# EAGLE library part TC1412N (library custom_parts)
Microchip MOSFET driver, 2A, 4-16V
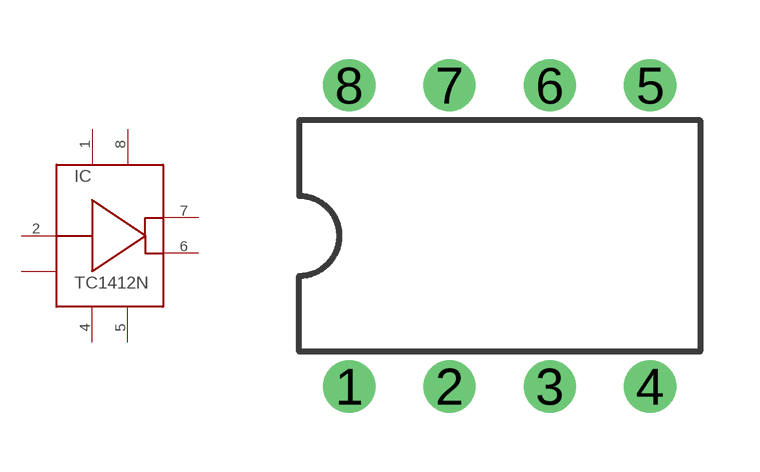
[diagram p20: symbol with the pads of DIL08; footprint DIL08]

Designator prefix IC

## TC1412N  [DIL08]
1  VDD1  sup
2  IN2  in
3  NC3  nc
4  GND4  sup
5  GND5  sup
6  OUT6  out
7  OUT7  out
8  VDD8  sup

## Footprint DIL08 (pad centres in mm)
Dual In Line Package
drill 0.813 pad 1.27: 1 -3.81,-3.81; 2 -1.27,-3.81; 3 1.27,-3.81; 4 3.81,-3.81; 5 3.81,3.81; 6 1.27,3.81; 7 -1.27,3.81; 8 -3.81,3.81